# Altium footprint library play.PcbLib: 8 footprints
Each footprint in its own frame and in the unit in brackets; x right, y up, seen from the top. Pads: shape width x height; smd on the part's side, far side on the other; paste and mask are expansions set on the pad; w line width, h text height; cw(c..) or ccw(c..) is an arc to the next point about the centre after c.
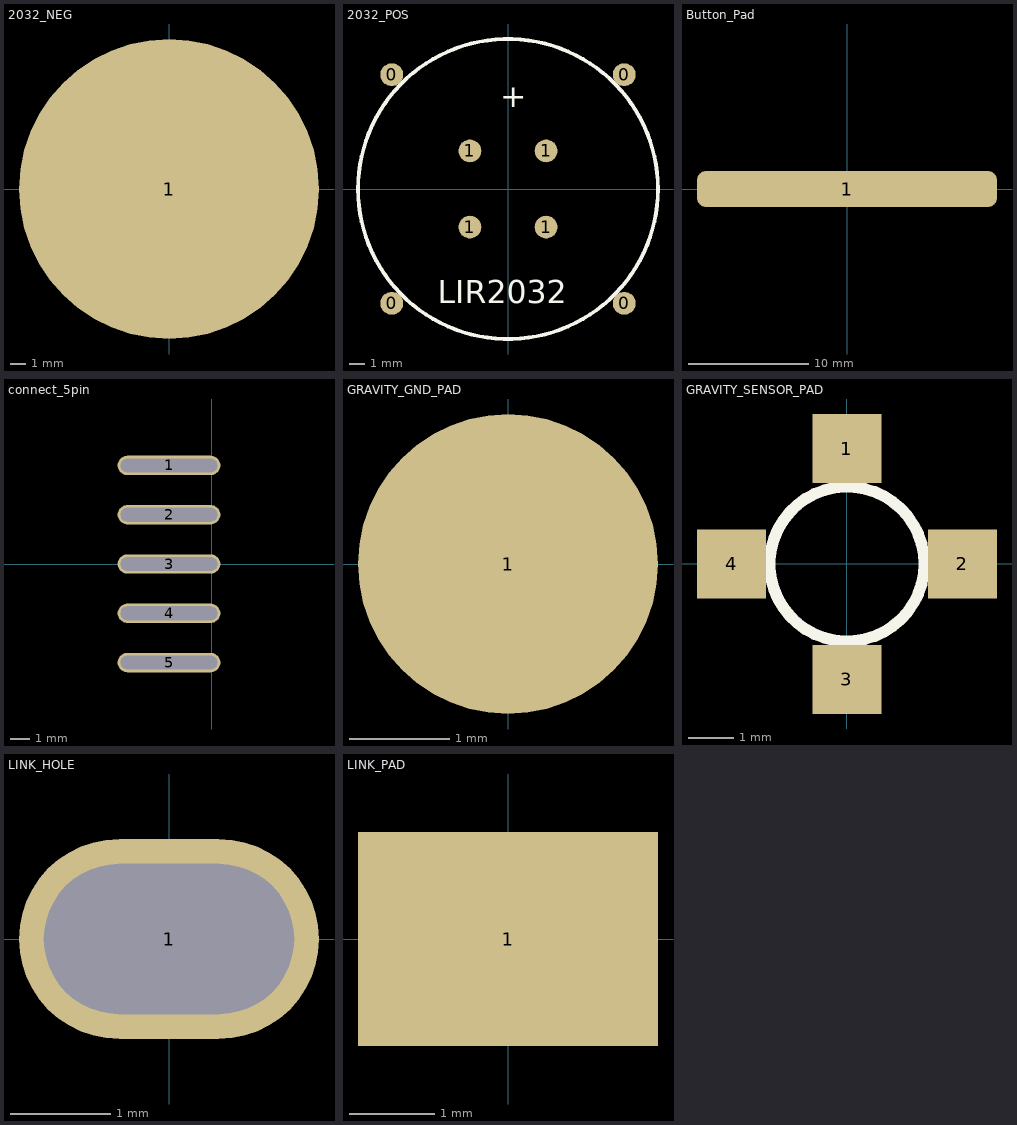
[diagram p0: the footprints below, top view; thin cyan lines are the x and y axes]

## 2032_NEG [mm]
pads (1):
  round 20 smd: 1(0,0)

## 2032_POS [mil]
pads (8):
  round 60 smd: 0(-305,-300) 0(-305,300) 0(305,-300) 0(305,300) 1(-100,-100) 1(-100,100) 1(100,-100) 1(100,100)
Top Overlay:
  circle w10: c0,0 r393.7
  text "LIR2032" at -185,-300 h60
  text "+" at -20,215 h60

## Button_Pad [mm]
pads (1):
  rrect50% 25x3 smd: 1(0,0)

## connect_5pin [mm]
pads (5):
  oval 5.3x1 hole 0.7 slot 5 at 0 deg: 1(-2.2,5.08) 2(-2.2,2.54) 3(-2.2,0) 4(-2.2,-2.54) 5(-2.2,-5.08)

## GRAVITY_GND_PAD [mm]
pads (1):
  round 3 smd: 1(0,0)

## GRAVITY_SENSOR_PAD [mil]
pads (4):
  rect 60x60 smd: 1(0,100) 2(100,0) 3(0,-100) 4(-100,0)
Top Overlay:
  circle w10: c0,0 r66.93

## LINK_HOLE [mm]
pads (1):
  oval 3x2 hole 1.5 slot 2.5 at 0 deg: 1(0,0)

## LINK_PAD [mm]
pads (1):
  rect 3.5x2.5 smd: 1(0,0)